# Altium footprint library lora_pcb.PcbLib: 1 footprints
Each footprint in its own frame and in the unit in brackets; x right, y up, seen from the top. Pads: shape width x height; smd on the part's side, far side on the other; paste and mask are expansions set on the pad; w line width, h text height; cw(c..) or ccw(c..) is an arc to the next point about the centre after c.
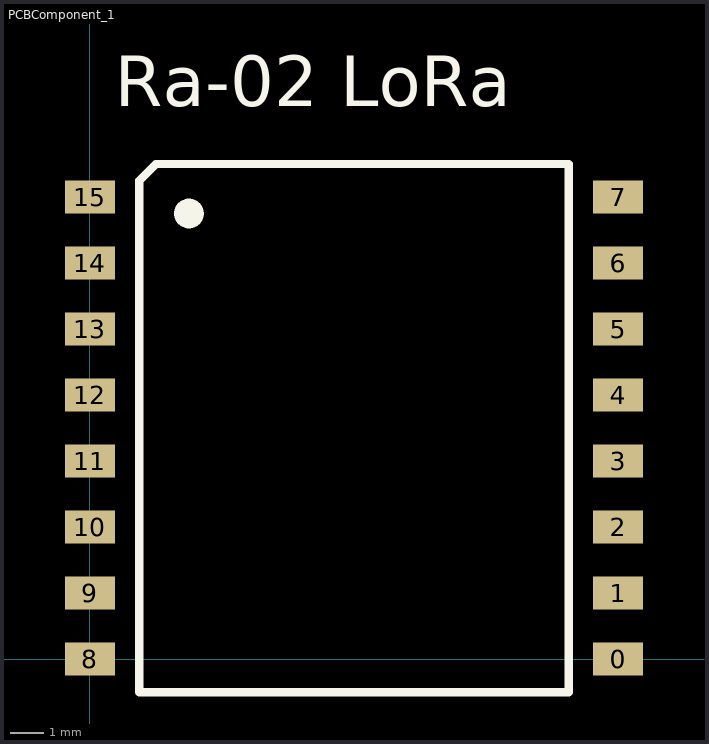
[diagram p0: the footprint, top view; thin cyan lines are the x and y axes]

## PCBComponent_1 [mm]
pads (16):
  rect 1.524x1 smd: 0(16,0) 1(16,2) 2(16,4) 3(16,6) 4(16,8) 5(16,10) 6(16,12) 7(16,14) 8(0,0) 9(0,2) 10(0,4) 11(0,6) 12(0,8) 13(0,10) 14(0,12) 15(0,14)
Top Overlay:
  circle w0.5: c3,13.5 r0.2
  lines w0.254: 1.5,-1 1.5,4.25 1.5,10.75 1.5,12.687 1.5,13.563 1.5,14.5 2,15 14.5,15 14.5,-1 1.5,-1
  text "Ra-02 LoRa" at 0.754,16.754 h1.52